# EAGLE library part 1432УД21 (library operational-amplifier)
АЕЯР.431100.280-13ТУ 1432УД21АУ,1432УД21БУ – двухканальный широкополосный операционный усилитель с обратной связью по напряжению с rail-to-rail диапазонам входных и выходных напряжений во всем диапазоне напряжения питания. Достоинства: ► Полоса пропускания 120 МГц ► Максимальная скорость нарастания выходного сигнала 120 В/мкс ► Ток потребления 6,4 мА ► Диапазон рабочих температур -60…+85 °С Основные электрические параметры, T=25 °C, Rн=1 кОм Параметр, единица измерения Условия Норма параметра Номинальное значение напряжения питания при однополярном при двухполярном Uп=3В Uп=5В Uп=±5В не менее не более не менее не более не менее не более Максимальное выходное напряжение, В Uвх=Uп от 0,1 до 2,9 - от 0,1 до 4,9 - от -4,8 до 4,8 - Напряжение смещения нуля, мВ Uвх=0 9,0 9,0 9,8 Ток потребления, мА Uвх=0 6,4 6,4 7,0 Средний входной ток, мкА Uвх=0 3,2 3,2 3,2 Разность входных токов, мкА Uвх=0 0,6 0,5 0,6 Коэффициент усиления напряжения, В/мВ Uвых=2 В 30 30 30 Коэффициент ослабления синфазных входных напряжений, дБ 68 66 66 Верхняя граничная частота полосы пропускания (-3дБ), МГц Uвых=0,5 В Rн=0,1 кОм 120 125 125 Максимальная скорость нарастания выходного напряжения, В/мкс Uвых=2 В 120 130 145 Время установления выходного напряжения (до уровня 0,1%), нс Uвых=2 В 45 39 32 Производитель: ОАО «НПП «ПУЛЬСАР», г. Москва.
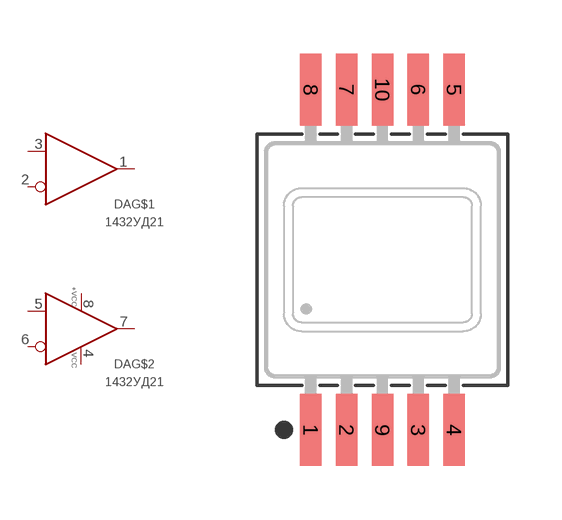
[diagram p10: symbol with the pads of H02.8-1B; footprint H02.8-1B]

Designator prefix DA; gates G$1=OPERATIONAL-AMPLIFIER-SIMPLE G$2=OPERATIONAL-AMPLIFIER-SIMPLE G$3=POWER_2

## 1432УД21АУ  [H02.8-1B]
1  G$1:OUT  out
2  G$1:!IN  in
3  G$1:IN  in
4  G$3:-VCC  pwr
5  G$2:IN  in
6  G$2:!IN  in
7  G$2:OUT  out
8  G$3:+VCC  pwr

## 1432УД21БУ  [H02.8-1B]
Pads as for H02.8-1B

## Footprint H02.8-1B (pad centres in mm)
smd 0.6 x 2: 1 -2,-4.75; 2 -1,-4.75; 3 1,-4.75; 4 2,-4.75; 5 2,4.75; 6 1,4.75; 7 -1,4.75; 8 -2,4.75; 9 0,-4.75; 10 0,4.75